# Altium schematic symbol library PUT.Schlib: 1 symbol
Pins are listed as number, name and electrical type; pins without a type are passive.

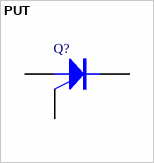
[diagram p0: symbol PUT]

## PUT
designator Q?
Programmable Unijunction Transistor
pins: 1 A, 2 G, 3 K